# EAGLE library part POTL_2 (library Pot1)
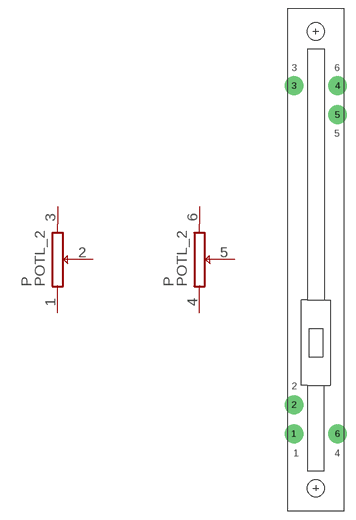
[diagram p0: symbol with the pads of POTL_2; footprint POTL_2]

Designator prefix P; gates G$1=POT_A G$2=POT_A

## POTL_2  [POTL_2]
1  G$1:1  pas
2  G$1:2  pas
3  G$1:3  pas
4  G$2:1  pas
5  G$2:2  pas
6  G$2:3  pas

## Footprint POTL_2 (pad centres in mm)
drill 0.813 pad 3.302 round: 1 -3.81,-30.48; 2 -3.81,-25.4; 3 -3.81,30.48; 4 3.81,30.48; 5 3.81,25.4; 6 3.81,-30.48